# EAGLE library part TPS22810DRVT (library TPS22810DRVT)
18V, 3A, 79mΩ Load Switch with Adjustable Rise Time, Adj. Quick Output Discharge, & Thermal Shutdown 6-WSON -40 to 105
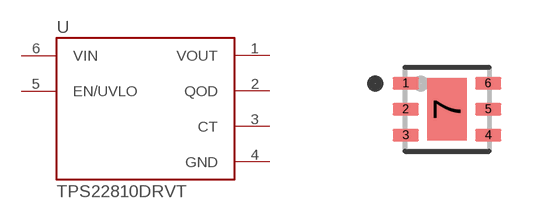
[diagram p0: symbol with the pads of SON65P200X200X80-7N; footprint SON65P200X200X80-7N]

Designator prefix U

## TPS22810DRVT (AVAILABILITY: Unavailable; DESCRIPTION: 18V, 3A, 79mΩ Load Switch with Adjustable Rise Time, Adj. Quick Output Discharge, & Thermal Shutdown 6-WSON -40 to 105; MF: Texas Instruments; MP: TPS22810DRVT; PACKAGE: WDFN-6 Texas Instruments; PRICE: None)  [SON65P200X200X80-7N]
1  VOUT  out
2  QOD  out
3  CT  out
4  GND  pwr
5  EN/UVLO  in
6  VIN  in

## Footprint SON65P200X200X80-7N (pad centres in mm)
smd 0.66 x 0.32: 1 -1.03,0.65; 2 -1.03,0; 3 -1.03,-0.65; 4 1.03,-0.65; 5 1.03,0; 6 1.03,0.65
smd 0.991 x 1.575: 7 0,0